# Altium footprint library LYDZ.PcbLib: 231 footprints (part 13 of 15)
Each footprint in its own frame and in the unit in brackets; x right, y up, seen from the top. Pads: shape width x height; smd on the part's side, far side on the other; paste and mask are expansions set on the pad; w line width, h text height; cw(c..) or ccw(c..) is an arc to the next point about the centre after c.
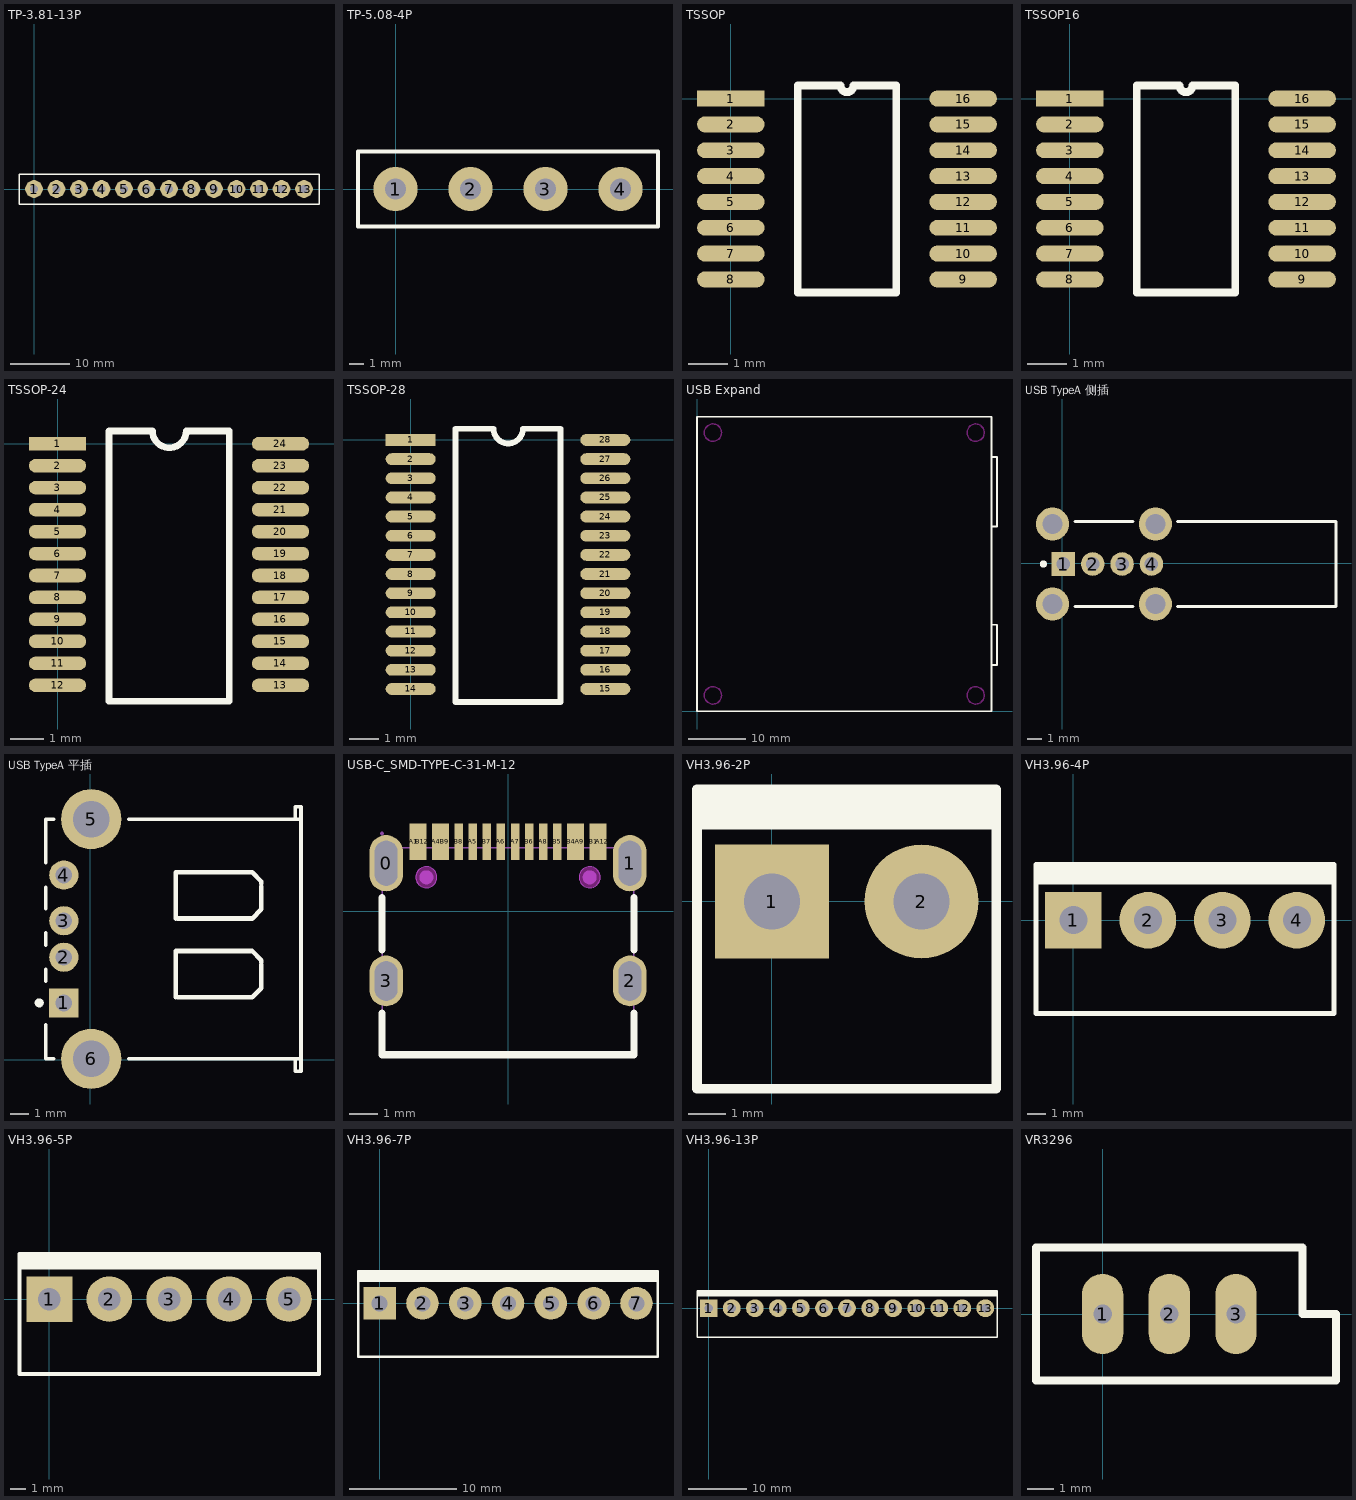
[diagram p12: the footprints below, top view; thin cyan lines are the x and y axes]

## TP-3.81-13P [mm]
pads (13):
  round 3 hole 1.4: 1(0,0) 2(3.81,0) 3(7.62,0) 4(11.43,0) 5(15.24,0) 6(19.05,0) 7(22.86,0) 8(26.67,0) 9(30.48,0) 10(34.29,0) 11(38.1,0) 12(41.91,0) 13(45.72,0)
Top Overlay:
  lines w0.254: -2.54,-2.54 48.26,-2.54 48.26,2.54 -2.54,2.54 -2.54,-2.54

## TP-5.08-4P [mm]
pads (4):
  round 3 hole 1.4: 1(0,0) 2(5.08,0) 3(10.16,0) 4(15.24,0)
Top Overlay:
  lines w0.254: -2.54,-2.54 -2.54,2.54 17.78,2.54 17.78,-2.54 -2.54,-2.54

## TSSOP [mm]
pads (16):
  rect 1.7x0.4 smd: 1(0,0)
  oval 1.7x0.4 smd: 2(0,-0.65) 3(0,-1.3) 4(0,-1.95) 5(0,-2.6) 6(0,-3.25) 7(0,-3.9) 8(0,-4.55) 9(5.85,-4.55) 10(5.85,-3.9) 11(5.85,-3.25) 12(5.85,-2.6) 13(5.85,-1.95) 14(5.85,-1.3) 15(5.85,-0.65) 16(5.85,0)
Top Overlay:
  lines w0.2: 1.685,-4.875 4.165,-4.875 4.165,0.325 3.088,0.325 cw(c2.925,0.325) 2.762,0.325 1.685,0.325 1.685,-4.875

## TSSOP16 [mm]
pads (16):
  rect 1.7x0.4 smd: 1(0,0)
  oval 1.7x0.4 smd: 2(0,-0.65) 3(0,-1.3) 4(0,-1.95) 5(0,-2.6) 6(0,-3.25) 7(0,-3.9) 8(0,-4.55) 9(5.85,-4.55) 10(5.85,-3.9) 11(5.85,-3.25) 12(5.85,-2.6) 13(5.85,-1.95) 14(5.85,-1.3) 15(5.85,-0.65) 16(5.85,0)
Top Overlay:
  lines w0.2: 1.685,-4.875 4.165,-4.875 4.165,0.325 3.087,0.325 cw(c2.925,0.325) 2.762,0.325 1.685,0.325 1.685,-4.875

## TSSOP-24 [mm]
pads (24):
  rect 1.7x0.4 smd: 1(0,0)
  oval 1.7x0.4 smd: 2(0,-0.65) 3(0,-1.3) 4(0,-1.95) 5(0,-2.6) 6(0,-3.25) 7(0,-3.9) 8(0,-4.55) 9(0,-5.2) 10(0,-5.85) 11(0,-6.5) 12(0,-7.15) 13(6.6,-7.15) 14(6.6,-6.5) 15(6.6,-5.85) 16(6.6,-5.2) 17(6.6,-4.55) 18(6.6,-3.9) 19(6.6,-3.25) 20(6.6,-2.6) 21(6.6,-1.95) 22(6.6,-1.3) 23(6.6,-0.65) 24(6.6,0)
Top Overlay:
  lines w0.2: 1.524,0.325 1.524,-7.62 5.08,-7.62 5.08,0.325 ; 1.524,0.381 2.794,0.381 ; 2.81,0.381 ccw(c3.31,0.381) 3.81,0.381 5.08,0.381

## TSSOP-28 [mm]
pads (28):
  rect 1.7x0.4 smd: 1(0,0)
  oval 1.7x0.4 smd: 2(0,-0.65) 3(0,-1.3) 4(0,-1.95) 5(0,-2.6) 6(0,-3.25) 7(0,-3.9) 8(0,-4.55) 9(0,-5.2) 10(0,-5.85) 11(0,-6.5) 12(0,-7.15) 13(0,-7.8) 14(0,-8.45) 15(6.604,-8.45) 16(6.604,-7.8) 17(6.604,-7.15) 18(6.604,-6.5) 19(6.604,-5.85) 20(6.604,-5.2) 21(6.604,-4.55) 22(6.604,-3.9) 23(6.604,-3.25) 24(6.604,-2.6) 25(6.604,-1.95) 26(6.604,-1.3) 27(6.604,-0.65) 28(6.604,0)
Top Overlay:
  lines w0.2: 1.524,0.325 1.524,-8.89 5.08,-8.89 5.08,0.325 ; 1.524,0.381 2.794,0.381 ; 2.81,0.381 ccw(c3.31,0.381) 3.81,0.381 5.08,0.381

## USB Expand [mil]
Top Overlay:
  lines w12: 2007.87,314.96 2045,314.96 2045,590.55 2007.87,590.55 ; 2007.87,1260 2045,1260 2045,1732.44 2007.87,1732.44 ; 0,0 0,2007.87 2007.87,2007.87 2007.87,0 0,0
Keep-Out Layer:
  circle w10: c108.27,1899.61 r59.06
  circle w10: c1899.61,1899.61 r59.06
  circle w10: c1899.61,108.27 r59.06
  circle w10: c108.27,108.27 r59.06

## USB TypeA 侧插 [mm] "USB TypeA 侧插"
pads (8):
  rect 1.6x1.6 hole 0.92: 1(0.084,-0.051)
  round 1.6 hole 0.92: 2(2.084,-0.051) 3(4.084,-0.051) 4(6.084,-0.051)
  round 2.25 hole 1.35: " "(-0.646,-2.771) " "(-0.646,2.669) " "(6.354,-2.771) " "(6.354,2.669)
Top Overlay:
  circle w0.25: c-1.266,-0.051 r0.125
  lines w0.2: 0.871,-2.931 4.837,-2.931 ; 0.871,2.829 4.837,2.829 ; 7.871,-2.931 18.644,-2.931 18.644,2.829 7.871,2.829

## USB TypeA 平插 [mm] "USB TypeA 平插"
pads (6):
  rect 1.6x1.6 hole 0.92: 1(-1.443,3.129)
  round 1.6 hole 0.92: 2(-1.443,5.629) 3(-1.443,7.629) 4(-1.443,10.129)
  round 3.3 hole 2: 5(0.057,13.199) 6(0.057,0.059)
Top Overlay:
  circle w0.25: c-2.793,3.129 r0.125
  lines w0.2: -2.443,1.929 -2.443,0.064 -1.993,0.064 ; -2.443,4.329 -2.443,4.959 ; -2.443,6.299 -2.443,6.959 ; -2.443,8.299 -2.443,9.459 ; -2.443,10.799 -2.443,13.194 -1.993,13.194 ; 2.107,0.064 11.557,0.064 ; 2.107,13.194 11.557,13.194 ; 11.237,0.064 11.237,-0.621 11.557,-0.621 11.557,0.064 ; 11.237,13.194 11.237,13.879 11.557,13.879 11.557,13.194 ; 11.557,0.064 11.557,13.194
  lines w0.254: 4.683,3.431 4.683,5.971 8.874,5.971 9.382,5.463 9.382,5.336 ; 4.683,7.749 4.683,10.289 8.874,10.289 9.382,9.781 9.382,9.654 ; 4.81,3.431 8.874,3.431 9.382,3.939 9.382,5.209 ; 4.81,7.749 8.874,7.749 9.382,8.257 9.382,9.527

## USB-C_SMD-TYPE-C-31-M-12 [mm]
pads (20):
  oval 1.2x2 hole 0.8 slot 1.6 at 90 deg: 0(-4.325,1.706) 1(4.325,1.706)
  oval 1.2x1.8 hole 0.8 slot 1.4 at 90 deg: 2(4.325,-2.474) 3(-4.325,-2.474)
  rect 0.3x1.3 smd paste-100 mask+0.051: A1(-3.35,2.474) A4(-2.55,2.474) A5(-1.25,2.474) A6(-0.25,2.474) A7(0.25,2.474) A8(1.25,2.474) A9(2.55,2.474) A12(3.35,2.474) B1(3.05,2.474) B4(2.25,2.474) B5(1.75,2.474) B6(0.75,2.474) B7(-0.75,2.474) B8(-1.75,2.474) B9(-2.25,2.474) B12(-3.05,2.474)
Top Overlay:
  lines w0.254: -4.469,-3.613 -4.469,-5.094 4.471,-5.094 4.471,-3.612 ; -4.469,-1.376 -4.469,0.487 ; 4.471,-1.376 4.471,0.488
Top Paste:
  drawing of 16 lines, arcs and shapes, not listed
Keep-Out Layer:
  board cut-out: 3.275,1.206 3.275,1.28 3.218,1.418 3.112,1.524 2.975,1.581 2.825,1.581 2.687,1.524 2.582,1.418 2.525,1.28 2.525,1.206 2.525,1.131 2.582,0.993 2.687,0.888 2.825,0.831 2.975,0.831 3.112,0.888 3.218,0.993 3.275,1.131 3.275,1.206
  board cut-out: -2.525,1.206 -2.525,1.28 -2.582,1.418 -2.687,1.524 -2.825,1.581 -2.975,1.581 -3.112,1.524 -3.218,1.418 -3.275,1.28 -3.275,1.206 -3.275,1.131 -3.218,0.993 -3.112,0.888 -2.975,0.831 -2.825,0.831 -2.687,0.888 -2.582,0.993 -2.525,1.131 -2.525,1.206
Mechanical 1:
  circle w0.005: c2.9,1.206 r0.375
  circle w0.005: c-2.9,1.206 r0.375
Mechanical 6:
  circle w0.25: c-2.9,1.206 r0.125
  circle w0.25: c2.9,1.206 r0.125
Mechanical 15:
  region: -3.41,2.756 -3.21,2.756 -3.21,2.056 -3.41,2.056
  region: -3.21,2.756 -3.01,2.756 -3.01,2.056 -3.21,2.056
  region: -2.61,2.756 -2.41,2.756 -2.41,2.056 -2.61,2.056
  region: -2.41,2.756 -2.21,2.756 -2.21,2.056 -2.41,2.056
  region: 2.21,2.756 2.41,2.756 2.41,2.056 2.21,2.056
  region: 2.41,2.756 2.61,2.756 2.61,2.056 2.41,2.056
  region: -1.85,2.756 -1.65,2.756 -1.65,2.056 -1.85,2.056
  region: -1.35,2.756 -1.15,2.756 -1.15,2.056 -1.35,2.056
  region: -0.85,2.756 -0.65,2.756 -0.65,2.056 -0.85,2.056
  region: -0.35,2.756 -0.15,2.756 -0.15,2.056 -0.35,2.056
  region: 0.15,2.756 0.35,2.756 0.35,2.056 0.15,2.056
  region: 0.65,2.756 0.85,2.756 0.85,2.056 0.65,2.056
  region: 1.15,2.756 1.35,2.756 1.35,2.056 1.15,2.056
  region: 1.65,2.756 1.85,2.756 1.85,2.056 1.65,2.056
  region: 3.01,2.756 3.21,2.756 3.21,2.056 3.01,2.056
  region: 3.21,2.756 3.41,2.756 3.41,2.056 3.21,2.056
  region: -4.475,2.256 -4.175,2.256 -4.175,1.156 -4.475,1.156
  region: 4.175,2.256 4.475,2.256 4.475,1.156 4.175,1.156
  region: 4.175,-2.074 4.475,-2.074 4.475,-2.874 4.175,-2.874
  region: -4.475,-2.074 -4.175,-2.074 -4.175,-2.874 -4.475,-2.874
  region: -4.415,2.756 -4.415,2.781 -4.45,2.816 -4.5,2.816 -4.535,2.781 -4.535,2.756 -4.535,2.731 -4.5,2.696 -4.45,2.696 -4.415,2.731 -4.415,2.756
  lines w0.051: -4.47,-5.094 4.47,-5.094 4.47,2.256 -4.47,2.256 -4.47,-5.094
Multi-Layer:
  pour cut-out: 3.275,1.206 3.275,1.28 3.218,1.418 3.112,1.524 2.975,1.581 2.825,1.581 2.687,1.524 2.582,1.418 2.525,1.28 2.525,1.206 2.525,1.131 2.582,0.993 2.687,0.888 2.825,0.831 2.975,0.831 3.112,0.888 3.218,0.993 3.275,1.131 3.275,1.206
  pour cut-out: -2.525,1.206 -2.525,1.28 -2.582,1.418 -2.687,1.524 -2.825,1.581 -2.975,1.581 -3.112,1.524 -3.218,1.418 -3.275,1.28 -3.275,1.206 -3.275,1.131 -3.218,0.993 -3.112,0.888 -2.975,0.831 -2.825,0.831 -2.687,0.888 -2.582,0.993 -2.525,1.131 -2.525,1.206

## VH3.96-2P [mil]
pads (2):
  rect 120x120 hole 59.05: 1(-0.19,-0.02)
  round 120 hole 59.05: 2(157.29,-0.02)
Top Overlay:
  rectangle: -78.15,75.9 236.81,113.69
  lines w10: -78.93,-196.95 236.03,-196.95 236.03,118.01 -78.93,118.01 -78.93,-196.95

## VH3.96-4P [mil]
pads (4):
  rect 120x120 hole 59.05: 1(0,0)
  round 120 hole 59.05: 2(157.48,0) 3(314.96,0) 4(472.44,0)
Top Overlay:
  rectangle: -75.87,75.83 555.32,113.63
  lines w10: -79.02,-197.22 -79.02,117.74 550.9,117.74 550.9,-197.22 -79.02,-197.22

## VH3.96-5P [mil]
pads (5):
  rect 120x120 hole 59.05: 1(0,0)
  round 120 hole 59.05: 2(157.48,0) 3(314.96,0) 4(472.44,0) 5(629.92,0)
Top Overlay:
  rectangle: -79.99,78.15 707.41,115.94
  lines w10: -78.74,-196.7 -78.74,118.26 708.66,118.26 708.66,-196.7 -78.74,-196.7

## VH3.96-7P [mil]
pads (7):
  rect 120x120 hole 59.05: 1(0,0)
  round 120 hole 59.05: 2(157.48,0) 3(314.96,0) 4(472.44,0) 5(629.92,0) 6(787.4,0) 7(944.88,0)
Top Overlay:
  rectangle: -79.59,78.15 1024.03,115.94
  lines w10: -78.74,-196.7 1023.62,-196.7 1023.62,118.26 -78.74,118.26 -78.74,-196.7

## VH3.96-13P [mil]
pads (13):
  rect 120x120 hole 59.05: 1(0,0)
  round 120 hole 59.05: 2(155.91,0) 3(311.81,0) 4(467.72,0) 5(623.62,0) 6(779.53,0) 7(935.43,0) 8(1091.34,0) 9(1247.24,0) 10(1403.15,0) 11(1559.06,0) 12(1714.96,0) 13(1870.87,0)
Top Overlay:
  rectangle: -79.59,78.15 1950,115.94
  lines w10: -78.74,-196.7 -78.74,118.26 1950,118.26 1950,-196.7 -78.74,-196.7

## VR3296 [mil]
pads (3):
  oval 62x120 hole 28: 1(0,0) 2(100,0) 3(200,0)
Top Overlay:
  lines w12: -100,-100 -100,100 300,100 300,0 350,0 350,-100 -100,-100